# EAGLE library part FT2232L (library ftdichip-5_preliminary)
USB UART / FIFO Controller 3nd Generation USB Double-UART (USB <-> Serial) - FIFO Controller
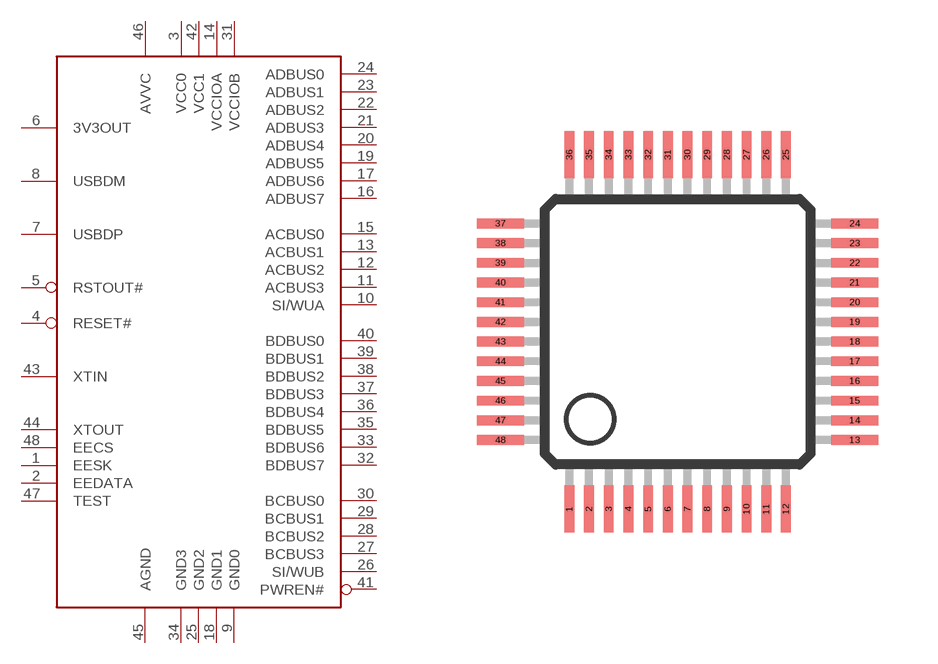
[diagram p2: symbol with the pads of LQFP48; footprint LQFP48]

Designator prefix U

## FT2232L  [LQFP48]
1  EESK
2  EEDATA
3  VCC0
4  RESET#
5  RSTOUT#
6  3V3OUT
7  USBDP
8  USBDM
9  GND0
10  SI/WUA
11  ACBUS3
12  ACBUS2
13  ACBUS1
14  VCCIOA
15  ACBUS0
16  ADBUS7
17  ADBUS6
18  GND1
19  ADBUS5
20  ADBUS4
21  ADBUS3
22  ADBUS2
23  ADBUS1
24  ADBUS0
25  GND2
26  SI/WUB
27  BCBUS3
28  BCBUS2
29  BCBUS1
30  BCBUS0
31  VCCIOB
32  BDBUS7
33  BDBUS6
34  GND3
35  BDBUS5
36  BDBUS4
37  BDBUS3
38  BDBUS2
39  BDBUS1
40  BDBUS0
41  PWREN#
42  VCC1
43  XTIN
44  XTOUT
45  AGND
46  AVVC
47  TEST
48  EECS

## Footprint LQFP48 (pad centres in mm)
LQFP-48 package 7x7 mm case, 0.5 mm lead pitch
smd 0.25 x 1.2: 1 -2.75,-4.5; 2 -2.25,-4.5; 3 -1.75,-4.5; 4 -1.25,-4.5; 5 -0.75,-4.5; 6 -0.25,-4.5; 7 0.25,-4.5; 8 0.75,-4.5; 9 1.25,-4.5; 10 1.75,-4.5; 11 2.25,-4.5; 12 2.75,-4.5; 25 2.75,4.5; 26 2.25,4.5; 27 1.75,4.5; 28 1.25,4.5; 29 0.75,4.5; 30 0.25,4.5; 31 -0.25,4.5; 32 -0.75,4.5; 33 -1.25,4.5; 34 -1.75,4.5; 35 -2.25,4.5; 36 -2.75,4.5
smd 1.2 x 0.25: 13 4.5,-2.75; 14 4.5,-2.25; 15 4.5,-1.75; 16 4.5,-1.25; 17 4.5,-0.75; 18 4.5,-0.25; 19 4.5,0.25; 20 4.5,0.75; 21 4.5,1.25; 22 4.5,1.75; 23 4.5,2.25; 24 4.5,2.75; 37 -4.5,2.75; 38 -4.5,2.25; 39 -4.5,1.75; 40 -4.5,1.25; 41 -4.5,0.75; 42 -4.5,0.25; 43 -4.5,-0.25; 44 -4.5,-0.75; 45 -4.5,-1.25; 46 -4.5,-1.75; 47 -4.5,-2.25; 48 -4.5,-2.75